# Altium footprint library Footprints.PcbLib: 27 footprints (part 1 of 2)
Each footprint in its own frame and in the unit in brackets; x right, y up, seen from the top. Pads: shape width x height; smd on the part's side, far side on the other; paste and mask are expansions set on the pad; w line width, h text height; cw(c..) or ccw(c..) is an arc to the next point about the centre after c.
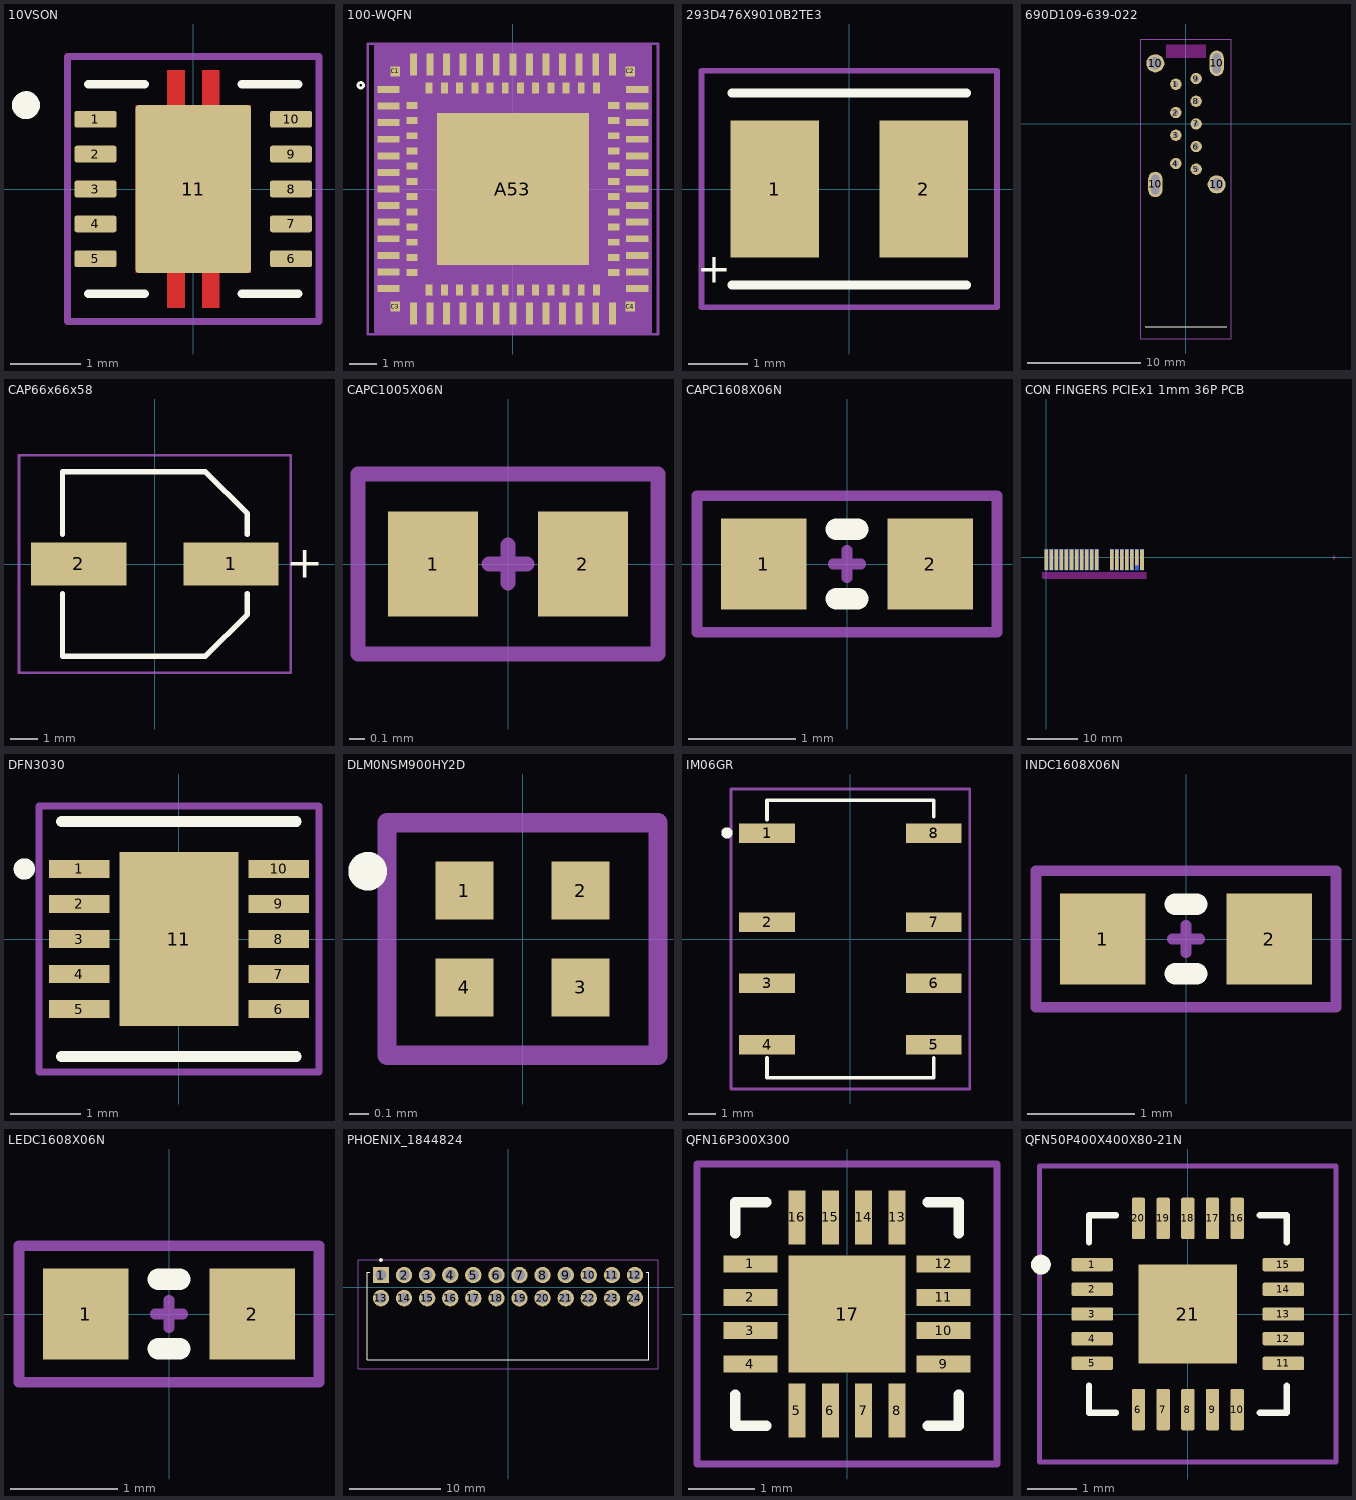
[diagram p0: the footprints below, top view; thin cyan lines are the x and y axes]

## 10VSON [mm]
pads (11):
  rrect25% 0.6x0.24 smd mask+0.05: 1(-1.4,1) 2(-1.4,0.5) 3(-1.4,0) 4(-1.4,-0.5) 5(-1.4,-1) 6(1.4,-1) 7(1.4,-0.5) 8(1.4,0) 9(1.4,0.5) 10(1.4,1)
  rrect5% 1.65x2.4 smd paste-2 mask+0.05: 11(0,0)
Top Layer:
  region: 0.375,1.2 0.825,1.2 0.825,-1.2 0.375,-1.2 0.375,-1.7 0.125,-1.7 0.125,-1.2 -0.125,-1.2 -0.125,-1.7 -0.375,-1.7 -0.375,-1.2 -0.825,-1.2 -0.825,1.2 -0.375,1.2 -0.375,1.7 -0.125,1.7 -0.125,1.2 0.125,1.2 0.125,1.7 0.375,1.7
Top Overlay:
  circle w0.2: c-2.395,1.2 r0.1
  lines w0.127: -1.5,-1.5 -0.695,-1.5 ; -1.5,1.5 -0.695,1.5 ; 0.695,-1.5 1.5,-1.5 ; 0.695,1.5 1.5,1.5
Top Paste:
  region: -0.125,-1.7 -0.375,-1.7 -0.375,-1.36 -0.125,-1.36
  region: 0.375,-1.7 0.125,-1.7 0.125,-1.36 0.375,-1.36
  region: -0.125,1.36 -0.375,1.36 -0.375,1.7 -0.125,1.7
  region: 0.375,1.36 0.125,1.36 0.125,1.7 0.375,1.7
  region: 0.75,-1.16 -0.75,-1.16 -0.75,-0.1 0.75,-0.1
  region: 0.75,0.1 -0.75,0.1 -0.75,1.16 0.75,1.16
Top Solder:
  rectangle: -0.4,1.225 -0.1,1.725
  rectangle: 0.1,1.225 0.4,1.725
  rectangle: -0.4,-1.725 -0.1,-1.225
  rectangle: 0.1,-1.725 0.4,-1.225
Top Component Outline:
  lines w0.1: -1.8,-1.9 -1.8,1.9 1.8,1.9 1.8,-1.9 -1.8,-1.9
Top Assembly:
  lines w0.1: -1.8,-1.9 -1.8,1.9 1.8,1.9 1.8,-1.9 -1.8,-1.9
  text ".Designator" at -2,-0.167 h0.4
3D body "TPS2560DRCT.step": height 1.01, standoff 0.01, extent -1.5,-1.5 1.5,1.5

## 100-WQFN [mm]
pads (105):
  rect 0.8x0.25 smd paste-0.387 mask-0.406: A1(-4.5,3.6) A2(-4.5,3) A3(-4.5,2.4) A4(-4.5,1.8) A5(-4.5,1.2) A6(-4.5,0.6) A7(-4.5,0) A8(-4.5,-0.6) A9(-4.5,-1.2) A10(-4.5,-1.8) A11(-4.5,-2.4) A12(-4.5,-3) A13(-4.5,-3.6) A27(4.5,-3.6) A28(4.5,-3) A29(4.5,-2.4) A30(4.5,-1.8) A31(4.5,-1.2) A32(4.5,-0.6) A33(4.5,0) A34(4.5,0.6) A35(4.5,1.2) A36(4.5,1.8) A37(4.5,2.4) A38(4.5,3) A39(4.5,3.6)
  rect 0.25x0.8 smd paste-0.387 mask-0.406: A14(-3.6,-4.5) A15(-3,-4.5) A16(-2.4,-4.5) A17(-1.8,-4.5) A18(-1.2,-4.5) A19(-0.6,-4.5) A20(0,-4.5) A21(0.6,-4.5) A22(1.2,-4.5) A23(1.8,-4.5) A24(2.4,-4.5) A25(3,-4.5) A26(3.6,-4.5) A40(3.6,4.5) A41(3,4.5) A42(2.4,4.5) A43(1.8,4.5) A44(1.2,4.5) A45(0.6,4.5) A46(0,4.5) A47(-0.6,4.5) A48(-1.2,4.5) A49(-1.8,4.5) A50(-2.4,4.5) A51(-3,4.5) A52(-3.6,4.5)
  rect 5.5x5.5 smd paste-2539.97: A53(0,0)
  rect 0.4x0.25 smd paste-0.187 mask-0.203: B1(-3.65,3.025) B2(-3.65,2.475) B3(-3.65,1.925) B4(-3.65,1.375) B5(-3.65,0.825) B6(-3.65,0.275) B7(-3.65,-0.275) B8(-3.65,-0.825) B9(-3.65,-1.375) B10(-3.65,-1.925) B11(-3.65,-2.475) B12(-3.65,-3.025) B25(3.65,-3.025) B26(3.65,-2.475) B27(3.65,-1.925) B28(3.65,-1.375) B29(3.65,-0.825) B30(3.65,-0.275) B31(3.65,0.275) B32(3.65,0.825) B33(3.65,1.375) B34(3.65,1.925) B35(3.65,2.475) B36(3.65,3.025)
  rect 0.25x0.4 smd paste-0.187 mask-0.203: B13(-3.025,-3.65) B14(-2.475,-3.65) B15(-1.925,-3.65) B16(-1.375,-3.65) B17(-0.825,-3.65) B18(-0.275,-3.65) B19(0.275,-3.65) B20(0.825,-3.65) B21(1.375,-3.65) B22(1.925,-3.65) B23(2.475,-3.65) B24(3.025,-3.65) B37(3.025,3.65) B38(2.475,3.65) B39(1.925,3.65) B40(1.375,3.65) B41(0.825,3.65) B42(0.275,3.65) B43(-0.275,3.65) B44(-0.825,3.65) B45(-1.375,3.65) B46(-1.925,3.65) B47(-2.475,3.65) B48(-3.025,3.65)
  rect 0.35x0.35 smd paste+0.125 mask-0.178: C1(-4.25,4.25) C2(4.25,4.25) C3(-4.25,-4.25) C4(4.25,-4.25)
Top Overlay:
  circle w0.1: c-5.5,3.75 r0.1
Top Paste:
  drawing of 164 lines, arcs and shapes, not listed
Top Solder:
  drawing of 104 lines, arcs and shapes, not listed
Top Component Outline:
  lines w0.1: -0.587,0 0.587,0 ; 0,-0.587 0,0.587 ; -5.25,-5.25 5.25,-5.25 5.25,5.25 -5.25,5.25 -5.25,-5.25
Top Assembly:
  circle w0.1: c-4.5,3.75 r0.1
  lines w0.1: -5.25,-5.25 5.25,-5.25 5.25,5.25 -5.25,5.25 -5.25,-5.25
  text ".Designator" at -2.4,-0.233 h0.5
Mechanical 13:
  lines w0.025: -4.575,3.305 -3.305,4.575 ; -4.575,-4.575 4.575,-4.575 4.575,4.575 -4.575,4.575 -4.575,-4.575
  text "*" at -5.653,3.646 h1.27
Mechanical 15:
  region: 4.954,-5.154 -4.954,-5.154 -4.954,5.154 4.954,5.154
  lines w0.152: -4.954,-5.154 -4.954,5.154 4.954,5.154 4.954,-5.154 -4.954,-5.154
3D body "TUSB7340RKMR.STEP": height 0.81, standoff 0.01, extent -4.5,-4.5 4.5,4.5

## 293D476X9010B2TE3 [mil]
pads (2):
  rect 58.96x91 smd paste+0 mask+1.97: 1(-49.52,0) 2(49.52,0)
Top Overlay:
  lines w6: -78,-64 78,-64 ; -78,64 78,64
  text "+" at -101.38,-62.33 h19.68
Top Component Outline:
  lines w3.94: -98.43,-78.74 -98.43,78.74 98.43,78.74 98.43,-78.74 -98.43,-78.74
Top Assembly:
  lines w3.94: -98.43,-78.74 -98.43,78.74 98.43,78.74 98.43,-78.74 -98.43,-78.74
  text ".Designator" at -94.49,-9.19 h19.68
3D body "CAP_293D_B_VIS.step": height 82.99, standoff 0, extent -72.99,-59.02 72.99,59.02

## 690D109-639-022 [mm]
pads (13):
  round 1 hole 0.5 paste+0 mask+0.1: 1(-0.9,3.5) 2(-0.9,1) 3(-0.9,-1) 4(-0.9,-3.5) 5(0.9,-4) 6(0.9,-2) 7(0.9,0) 8(0.9,2) 9(0.9,4)
  oval 1.25x2.25 hole 0.7 slot 1.75 at 90 deg paste+0 mask+0.1: 10(-2.71,-5.35) 10(2.71,5.35)
  round 1.6 hole 1.1 paste+0 mask+0.1: 10(-2.71,5.35) 10(2.71,-5.35)
Top Layer keep-out:
  rectangle: -1.75,5.8 1.75,7
Top Overlay:
  lines w0.1: -3.6,-17.9 3.6,-17.9
Top Component Outline:
  lines w0.1: -4,-19 -4,7.5 4,7.5 4,-19 -4,-19
Top Assembly:
  lines w0.1: -4,-19 -4,7.5 4,7.5 4,-19 -4,-19
  text ".Designator" at 0.233,-2.7 h0.5
3D body "690D109-639-022 - EDAC USB Connector.STEP": height 14.5, standoff -2.66, extent -3.54,-18.575 3.58,7.175

## CAP66x66x58 [mm]
height 0.6
pads (2):
  rect 3.5x1.6 smd: 1(2.8,0) 2(-2.8,0)
Top Overlay:
  lines w0.2: -3.4,-1.1 -3.4,-3.4 1.85,-3.4 3.4,-1.85 3.4,-1.1 ; -3.4,1.1 -3.4,3.4 1.85,3.4 3.4,1.85 3.4,1.1
  text "+" at 4.836,-0.514 h1.2
Top Component Outline:
  lines w0.1: -5,-4 5,-4 5,4 -5,4 -5,-4
Top Assembly:
  lines w0.1: -5,-4 5,-4 5,4 -5,4 -5,-4
  text ".Designator" at -2.4,-0.233 h0.5
3D body "Download_STP_875105x440xx_rev1.stp": height 5.8, standoff 0, extent -3.65,-3.3 3.65,3.3

## CAPC1005X06N [mm] "Chip Capacitor, 2-Leads, Body 1.00x0.50mm, IPC Medium Density"
height 0.6
pads (2):
  rect 0.6x0.7 smd: 1(-0.5,0) 2(0.5,0)
Top Component Outline:
  lines w0.1: -0.127,0 0.127,0 ; 0,-0.127 0,0.127 ; -1,-0.6 1,-0.6 1,0.6 -1,0.6 -1,-0.6
Top Assembly:
  lines w0.1: -1,-0.6 -1,0.6 1,0.6 1,-0.6 -1,-0.6
  text ".Designator" at -0.966,-0.01 h0.2
3D body: height 0.6, standoff 0, extent 0.3,-0.3 0.527,0.3
3D body: height 0.6, standoff 0, extent -0.527,-0.3 -0.3,0.3
3D body: height 0.6, standoff 0, extent -0.3,-0.3 0.3,0.3

## CAPC1608X06N [mm] "Chip Capacitor, 2-Leads, Body 1.60x0.80mm, IPC Medium Density"
height 0.6
pads (2):
  rect 0.8x0.85 smd: 1(-0.775,0) 2(0.775,0)
Top Overlay:
  lines w0.2: -0.1,-0.325 0.1,-0.325 ; -0.1,0.325 0.1,0.325
Top Component Outline:
  lines w0.1: -0.127,0 0.127,0 ; 0,-0.127 0,0.127 ; -1.397,-0.635 -1.397,0.635 1.397,0.635 1.397,-0.635 -1.397,-0.635
Top Assembly:
  lines w0.1: -1.397,-0.635 1.397,-0.635 1.397,0.635 -1.397,0.635 -1.397,-0.635
  text ".Designator" at -0.966,-0.01 h0.2
3D body: height 0.6, standoff 0, extent -0.4,-0.4 0.4,0.4
3D body: height 0.6, standoff 0, extent -0.8,-0.4 -0.4,0.4
3D body: height 0.6, standoff 0, extent 0.4,-0.4 0.8,0.4

## CON FINGERS PCIEx1 1mm 36P PCB [mm]
pads (36):
  rect 0.7x4.1 smd far side paste-1: A1(0,-0.45) A2(1,-0.45) A3(2,-0.45) A4(3,-0.45) A5(4,-0.45) A6(5,-0.45) A7(6,-0.45) A8(7,-0.45) A9(8,-0.45) A10(9,-0.45) A11(10,-0.45) A12(13,-0.45) A13(14,-0.45) A14(15,-0.45) A15(16,-0.45) A16(17,-0.45) A17(18,-0.45) A18(19,-0.45)
  rect 0.7x4.1 smd paste-1: B1(0,-0.45) B2(1,-0.45) B3(2,-0.45) B4(3,-0.45) B5(4,-0.45) B6(5,-0.45) B7(6,-0.45) B8(7,-0.45) B9(8,-0.45) B10(9,-0.45) B11(10,-0.45) B12(13,-0.45) B13(14,-0.45) B14(15,-0.45) B15(16,-0.45) B16(17,-0.45) B18(19,-0.45)
  rect 0.7x3.2 smd paste-1: B17(18,0)
Top Solder:
  rectangle: -0.9,-4.3 19.9,1.7
Bottom Solder:
  rectangle: -0.9,-4.3 19.9,1.7
Keep-Out Layer:
  rectangle: -0.9,-4.29 19.9,-2.857
Mechanical 11:
  lines w0.1: 56.769,0 57.15,0 ; 57.15,-0.381 57.15,0 ; 57.15,0.381 57.15,0 ; 57.531,0 57.15,0

## DFN3030 [mil]
pads (11):
  rect 34x10 smd paste+0 mask+0: 1(-56,39.37) 2(-56,19.68) 3(-56,0) 4(-56,-19.68) 5(-56,-39.37) 6(56,-39.37) 7(56,-19.68) 8(56,0) 9(56,19.68) 10(56,39.37)
  rect 67x98 smd paste+0 mask+0: 11(0,0)
Top Overlay:
  circle w6: c-86.84,39.37 r3
  lines w6: -66,-66 66,-66 ; -66,66 66,66
Top Component Outline:
  lines w3.94: -78.74,-74.8 78.74,-74.8 78.74,74.8 -78.74,74.8 -78.74,-74.8
Top Assembly:
  lines w3.94: -78.74,-74.8 78.74,-74.8 78.74,74.8 -78.74,74.8 -78.74,-74.8
  text ".Designator" at -98.43,-5.25 h19.68
3D body "U-DFN3030-10_DIO.step": height 25.12, standoff 0, extent -60.98,-60.98 60.98,60.98

## DLM0NSM900HY2D [mm]
pads (4):
  rect 0.3x0.3 smd: 1(-0.3,0.25) 2(0.3,0.25) 3(0.3,-0.25) 4(-0.3,-0.25)
Top Overlay:
  circle w0.1: c-0.8,0.35 r0.05
Top Component Outline:
  lines w0.1: -0.7,-0.6 -0.7,0.6 0.7,0.6 0.7,-0.6 0.6,-0.6 -0.7,-0.6
Top Assembly:
  lines w0.1: -0.7,-0.6 -0.7,0.6 0.7,0.6 0.7,-0.6 -0.7,-0.6
  text ".Designator" at -0.95,-0.083 h0.2
3D body "DLM0NSM900HY2D.step": height 0.51, standoff 0.01, extent -0.325,-0.425 0.325,0.425

## IM06GR [mm]
pads (8):
  rect 2x0.7 smd: 1(-3,3.8) 2(-3,0.6) 3(-3,-1.6) 4(-3,-3.8) 5(3,-3.8) 6(3,-1.6) 7(3,0.6) 8(3,3.8)
Top Overlay:
  circle w0.2: c-4.44,3.82 r0.1
  lines w0.127: -3,-4.28 -3,-5 3,-5 3,-4.28 ; -3,4.29 -3,5 3,5 3,4.4
Top Component Outline:
  lines w0.1: -4.3,-5.4 4.3,-5.4 4.3,5.4 -4.3,5.4 -4.3,-5.4
Top Assembly:
  lines w0.1: -4.3,-5.4 4.3,-5.4 4.3,5.4 -4.3,5.4 -4.3,-5.4
  text ".Designator" at -2.5,-0.233 h0.5
3D body "IM06GR.step": height 5.86, standoff 0.01, extent -3.75,-5 3.75,5

## INDC1608X06N [mm] "Chip Inductor, 2-Leads, Body 1.60x0.80mm, IPC Medium Density"
height 0.6
pads (2):
  rect 0.8x0.85 smd: 1(-0.775,0) 2(0.775,0)
Top Overlay:
  lines w0.2: -0.1,-0.325 0.1,-0.325 ; -0.1,0.325 0.1,0.325
Top Component Outline:
  lines w0.1: -0.127,0 0.127,0 ; 0,-0.127 0,0.127 ; -1.397,-0.635 1.397,-0.635 1.397,0.635 -1.397,0.635 -1.397,-0.635
Top Assembly:
  lines w0.1: -1.397,-0.635 -1.397,0.635 1.397,0.635 1.397,-0.635 -1.397,-0.635
  text ".Designator" at -0.966,-0.01 h0.2
3D body: height 0.6, standoff 0, extent -0.4,-0.4 0.4,0.4
3D body: height 0.6, standoff 0, extent -0.8,-0.4 -0.4,0.4
3D body: height 0.6, standoff 0, extent 0.4,-0.4 0.8,0.4

## LEDC1608X06N [mm] "Chip LED, 2-Leads, Body 1.60x0.80mm, IPC Medium Density"
height 0.6
pads (2):
  rect 0.8x0.85 smd: 1(-0.775,0) 2(0.775,0)
Top Overlay:
  lines w0.2: -0.1,-0.325 0.1,-0.325 ; -0.1,0.325 0.1,0.325
Top Component Outline:
  lines w0.1: -0.127,0 0.127,0 ; 0,-0.127 0,0.127 ; -1.397,-0.635 -1.397,0.635 1.397,0.635 1.397,-0.635 -1.397,-0.635
Top Assembly:
  lines w0.1: -1.397,-0.635 1.397,-0.635 1.397,0.635 -1.397,0.635 -1.397,-0.635
  text ".Designator" at -0.966,-0.01 h0.2
3D body "QBLP601_MONO(V2).step": height 0.6, standoff 0, extent -0.8,-0.4 0.8,0.4

## PHOENIX_1844824 [mm]
pads (24):
  rect 1.8x1.8 hole 1.2: 1(-13.974,1.319)
  round 1.8 hole 1.2: 2(-11.434,1.319) 3(-8.894,1.319) 4(-6.354,1.319) 5(-3.814,1.319) 6(-1.274,1.319) 7(1.266,1.319) 8(3.806,1.319) 9(6.346,1.319) 10(8.886,1.319) 11(11.426,1.319) 12(13.966,1.319) 13(-13.974,-1.221) 14(-11.434,-1.221) 15(-8.894,-1.221) 16(-6.354,-1.221) 17(-3.814,-1.221) 18(-1.274,-1.221) 19(1.266,-1.221) 20(3.806,-1.221) 21(6.346,-1.221) 22(8.886,-1.221) 23(11.426,-1.221) 24(13.966,-1.221)
Top Overlay:
  circle w0.2: c-13.974,2.969 r0.1
  lines w0.127: -15.194,1.639 -15.494,1.639 -15.494,-8.001 15.486,-8.001 15.486,1.639 15.186,1.639
Top Component Outline:
  lines w0.1: -16.5,-9 -16.5,3 16.5,3 16.5,-9 -16.5,-9
Top Assembly:
  lines w0.1: -16.5,-9 16.5,-9 16.5,3 -16.5,3 -16.5,-9
  text ".Designator" at -7.746,-4.238 h1.52
3D body "pxc_1844824_01_00_DMC-0-5-12-G1-2-54-P20THR-R72_3D.stp": height 7.39, standoff -2, extent -15.89,-8 15.89,1.92

## QFN16P300X300 [mil]
pads (17):
  rect 32x10 smd paste+0 mask+1.97: 1(-57,29.53) 2(-57,9.84) 3(-57,-9.84) 4(-57,-29.53) 9(57,-29.53) 10(57,-9.84) 11(57,9.84) 12(57,29.53)
  rect 10x32 smd paste+0 mask+1.97: 5(-29.53,-57) 6(-9.84,-57) 7(9.84,-57) 8(29.53,-57) 13(29.53,57) 14(9.84,57) 15(-9.84,57) 16(-29.53,57)
  rect 69x69 smd paste+0 mask+1.97: 17(0,0)
Top Overlay:
  lines w6: -66,-47.63 -66,-66 -47.63,-66 ; -66,47.63 -66,66 -47.63,66 ; 47.63,-66 66,-66 66,-47.63 ; 47.63,66 66,66 66,47.63
  text "." at -88.43,49.37 h19.68
Top Component Outline:
  lines w3.94: -88.58,-88.58 -88.58,88.58 88.58,88.58 88.58,-88.58 -88.58,-88.58
Top Assembly:
  lines w3.94: -88.58,-88.58 -88.58,88.58 88.58,88.58 88.58,-88.58 -88.58,-88.58
  text ".Designator" at -74.8,-0.66 h15.75
3D body "RTE0016C.stp": height 32, standoff 0.5, extent -59.06,-59.06 59.06,59.06

## QFN50P400X400X80-21N [mm]
pads (21):
  rrect25% 0.84x0.27 smd: 1(-1.935,1) 2(-1.935,0.5) 3(-1.935,0) 4(-1.935,-0.5) 5(-1.935,-1) 11(1.935,-1) 12(1.935,-0.5) 13(1.935,0) 14(1.935,0.5) 15(1.935,1)
  rrect25% 0.27x0.84 smd: 6(-1,-1.935) 7(-0.5,-1.935) 8(0,-1.935) 9(0.5,-1.935) 10(1,-1.935) 16(1,1.935) 17(0.5,1.935) 18(0,1.935) 19(-0.5,1.935) 20(-1,1.935)
  rect 2x2 smd paste-0.37: 21(0,0)
Top Overlay:
  circle w0.2: c-2.975,1 r0.1
  lines w0.127: -2,-1.455 -2,-2 -1.455,-2 ; -2,1.455 -2,2 -1.455,2 ; 1.455,-2 2,-2 2,-1.455 ; 1.455,2 2,2 2,1.455
Top Component Outline:
  lines w0.1: -3,-3 -3,3 3,3 3,-3 -3,-3
Top Assembly:
  lines w0.1: -3,-3 -3,3 3,3 3,-3 -3,-3
  text ".Designator" at -2.4,-0.233 h0.5
3D body "FT231XQ-R.step": height 0.76, standoff -0.04, extent -2,-2 2,2